# EAGLE library part 74*7014 (library SparkFun-IC-Logic)
Schmitt-trigger Hex Buffer The 74HC7014 is a hex buffer with precision Schmitt-trigger inputs. The precisely defined trigger levels are lying in a window between (0.55 x VCC) and (0.65 x VCC). It makes the circuit suitable to operate in a highly noisy environment. Input shorts are allowed to -1.5 V and +16 V without disturbing other channels. Inputs include clamp diodes that enable the use of current limiting resistors to interface inputs to voltages in excess of VCC. Schmitt trigger inputs transform slowly changing input signals into sharply defined jitter-free output signals. SparkFun Products SparkFun Stepoko <https://www.sparkfun.com/products/13899> (ROB-13899)
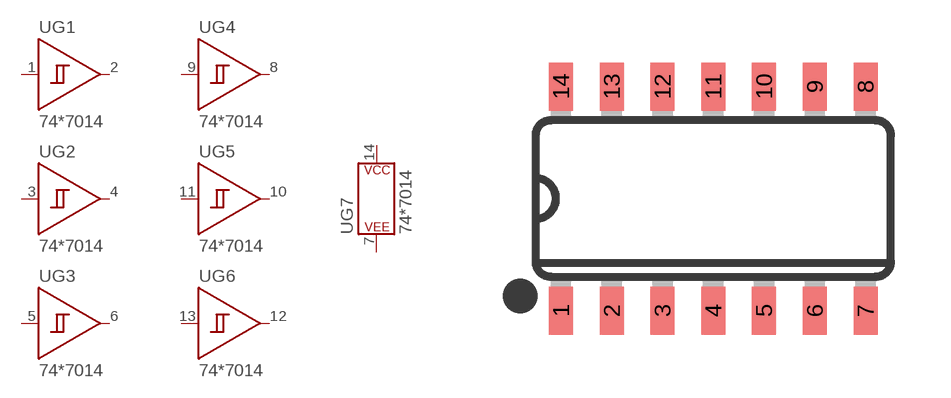
[diagram p5: symbol with the pads of SO14; footprint SO14]

Designator prefix U; gates G1=GATE_INVERTER_SCHMITT_TRIGGER G2=GATE_INVERTER_SCHMITT_TRIGGER G3=GATE_INVERTER_SCHMITT_TRIGGER G4=GATE_INVERTER_SCHMITT_TRIGGER G5=GATE_INVERTER_SCHMITT_TRIGGER G6=GATE_INVERTER_SCHMITT_TRIGGER G7=POWER_CONSORT

## 74HC7014D (PROD_ID: IC-12527; VALUE: 74HC7014D)  [SO14]
1  G1:A
2  G1:Y
3  G2:A
4  G2:Y
5  G3:A
6  G3:Y
7  G7:P$V-
8  G4:Y
9  G4:A
10  G5:Y
11  G5:A
12  G6:Y
13  G6:A
14  G7:P$V+

## Footprint SO14 (pad centres in mm)
smd 0.6 x 1.2: 1 -3.175,-2.8; 2 -1.905,-2.8; 3 -0.635,-2.8; 4 0.635,-2.8; 5 1.905,-2.8; 6 3.175,-2.8; 7 4.445,-2.8; 8 4.445,2.8; 9 3.175,2.8; 10 1.905,2.8; 11 0.635,2.8; 12 -0.635,2.8; 13 -1.905,2.8; 14 -3.175,2.8